# EAGLE library part 431151015826 (library picoblade_8P)
White Tactile Tactile Switch, NO 20 mA 0.3mm Surface Mount Source: Datasheet <https://componentsearchengine.com/Datasheets/2/431151015826.pdf>
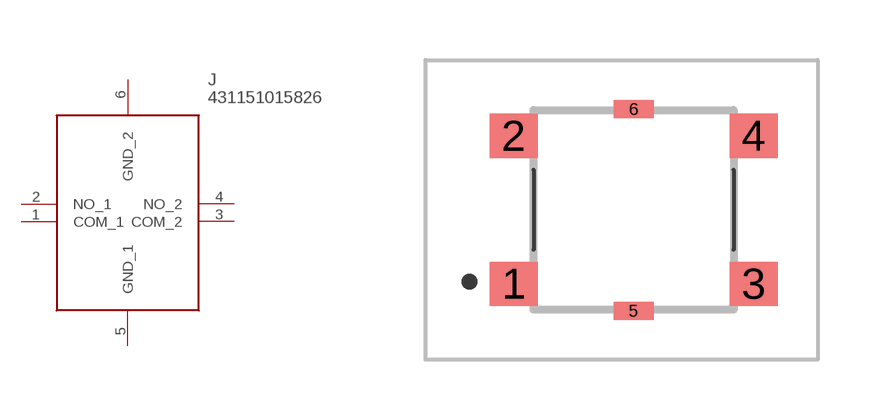
[diagram p0: symbol with the pads of 431151015826; footprint 431151015826]

Designator prefix J

## 431151015826 (DESCRIPTION: White Tactile Tactile Switch, NO 20 mA 0.3mm Surface Mount; HEIGHT: 1.6mm; MANUFACTURER_NAME: Wurth Elektronik; MANUFACTURER_PART_NUMBER: 431151015826; MOUSER_PART_NUMBER: 710-431151015826; MOUSER_PRICE-STOCK: https://www.mouser.co.uk/ProductDetail/Wurth-Elektronik/431151015826?qs=wr8lucFkNMWt0fEnpc%252BesA%3D%3D)  [431151015826]
1  COM_1
2  NO_1
3  COM_2
4  NO_2
5  GND_1
6  GND_2

## Footprint 431151015826 (pad centres in mm)
431151015826-1
smd 1.2 x 1.1: 1 -3,-1.85; 2 -3,1.85; 3 3,-1.85; 4 3,1.85
smd 1 x 0.45: 5 0,-2.525; 6 0,2.525